# Altium footprint library EISI.PcbLib: 695 footprints (part 34 of 44)
Each footprint in its own frame and in the unit in brackets; x right, y up, seen from the top. Pads: shape width x height; smd on the part's side, far side on the other; paste and mask are expansions set on the pad; w line width, h text height; cw(c..) or ccw(c..) is an arc to the next point about the centre after c.
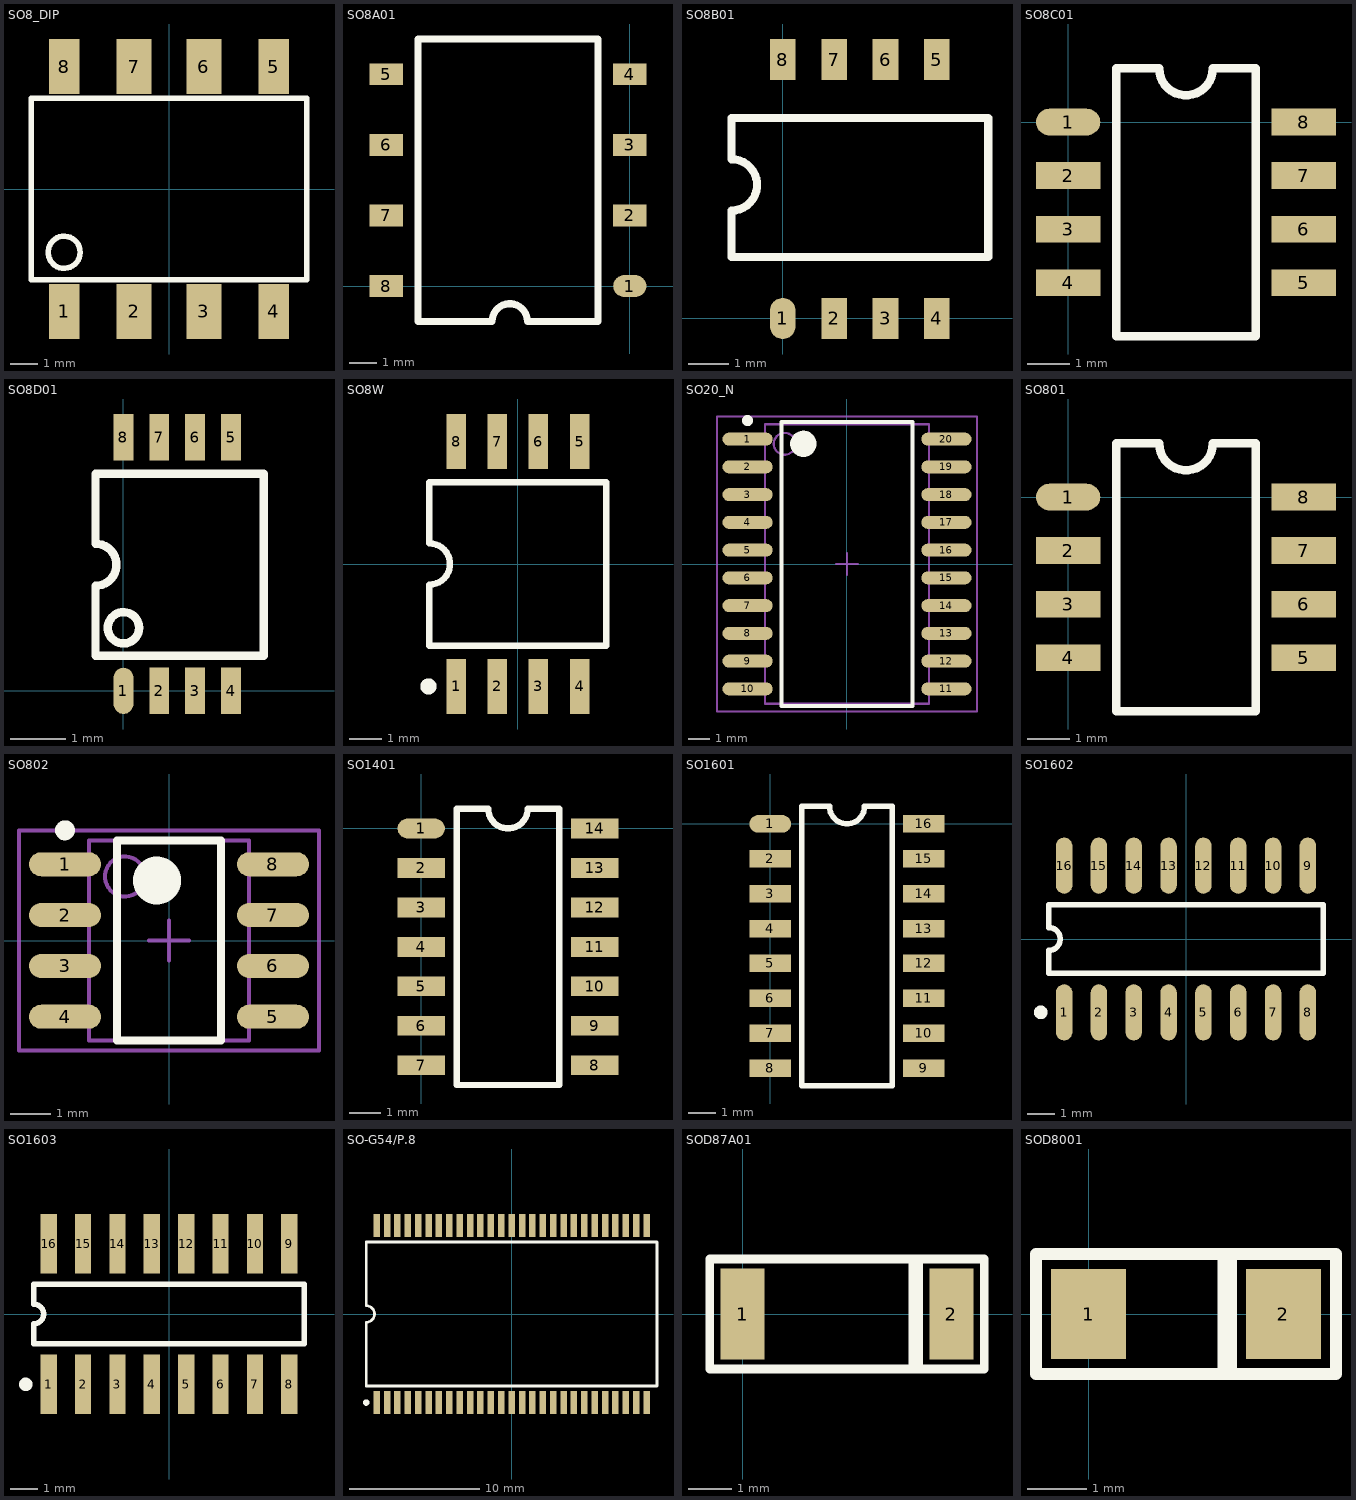
[diagram p33: the footprints below, top view; thin cyan lines are the x and y axes]

## SO8_DIP [mm] "8 pin DIP with gull Wing Surface Mount Option 300"
height 3.7
pads (8):
  rect 1.1x2 smd: 1(-3.81,-4.45) 4(3.81,-4.45) 5(3.81,4.45) 8(-3.81,4.45)
  rect 1.27x2 smd: 2(-1.27,-4.45) 3(1.27,-4.45) 6(1.27,4.45) 7(-1.27,4.45)
TopOverlay:
  circle w0.2: c-3.81,-2.3 r0.583
  lines w0.2: -5,-3.3 -5,3.3 5,3.3 5,-3.3 -5,-3.3

## SO8A01 [mil]
pads (8):
  oval 47x31 smd: 1(0,0)
  rect 47x31 smd: 2(0,100) 3(0,200) 4(0,300) 5(-345,300) 6(-345,200) 7(-345,100) 8(-345,0)
TopOverlay:
  lines w10: -300,-50 -195,-50 cw(c-170,-50) -145,-50 -45,-50 -45,350 -300,350 -300,-50

## SO8B01 [mil]
pads (8):
  oval 25x40 smd: 1(0,0)
  rect 25x40 smd: 2(50,0) 3(100,0) 4(150,0) 5(150,252) 6(100,252) 7(50,252) 8(0,252)
TopOverlay:
  lines w7.87: -50,105 -50,60 -20,60 200,60 200,195 -50,195 -50,155
  lines w8: -50,105 ccw(c-50,130) -50,155

## SO8C01 [mil]
pads (8):
  oval 60x25 smd: 1(0,0)
  rect 60x25 smd: 2(0,-50) 3(0,-100) 4(0,-150) 5(220,-150) 6(220,-100) 7(220,-50) 8(220,0)
TopOverlay:
  lines w7.87: 85,50 45,50 45,20 45,-200 175,-200 175,50 135,50
  lines w8: 85,50 ccw(c110,50) 135,50

## SO8D01 [mm]
pads (8):
  oval 0.36x0.84 smd: 1(0,0)
  rect 0.36x0.84 smd: 2(0.65,0) 3(1.3,0) 4(1.95,0) 5(1.95,4.6) 6(1.3,4.6) 7(0.65,4.6) 8(0,4.6)
TopOverlay:
  circle w0.152: c0,1.143 r0.284
  lines w0.152: -0.508,0.635 -0.508,1.905 ccw(c-0.508,2.286) -0.508,2.667 -0.508,3.937 2.54,3.937 2.54,0.635 -0.508,0.635

## SO8W [mm] "Small Outline; 8 Leads; Body Width 5.3 mm; Pitch 1.27 mm"
height 2.13
pads (8):
  rect 0.6x1.7 smd: 1(-1.905,-3.775) 2(-0.635,-3.775) 3(0.635,-3.775) 4(1.905,-3.775) 5(1.905,3.775) 6(0.635,3.775) 7(-0.635,3.775) 8(-1.905,3.775)
TopOverlay:
  circle w0.25: c-2.755,-3.775 r0.125
  lines w0.2: -2.725,-2.525 2.725,-2.525 2.725,2.525 -2.725,2.525 -2.725,0.635 cw(c-2.725,0) -2.725,-0.635 -2.725,-2.525

## SO20_N [mm] "20-Pin Plastic Small Outline Integrated Circuit 1.27 mm Pitch, IPC Medium Density"
height 2.65
pads (20):
  oval 2.3x0.6 smd: 1(-4.55,5.715) 2(-4.55,4.445) 3(-4.55,3.175) 4(-4.55,1.905) 5(-4.55,0.635) 6(-4.55,-0.635) 7(-4.55,-1.905) 8(-4.55,-3.175) 9(-4.55,-4.445) 10(-4.55,-5.715) 11(4.55,-5.715) 12(4.55,-4.445) 13(4.55,-3.175) 14(4.55,-1.905) 15(4.55,-0.635) 16(4.55,0.635) 17(4.55,1.905) 18(4.55,3.175) 19(4.55,4.445) 20(4.55,5.715)
TopOverlay:
  circle w0.25: c-4.55,6.565 r0.125
  circle w0.6: c-2,5.5 r0.3
  lines w0.2: -3,-6.5 -3,6.5 3,6.5 3,-6.5 -3,-6.5
Mechanical13:
  circle w0.1: c-2.85,5.5 r0.5
  lines w0.1: -3.75,-6.4 -3.75,6.4 3.75,6.4 3.75,-6.4 -3.75,-6.4
Mechanical15:
  lines w0.1: -0.5,0 0.5,0 ; 0,-0.5 0,0.5 ; -5.95,-6.75 -5.95,6.75 5.95,6.75 5.95,-6.75 -5.95,-6.75
3D body: height 2.65, standoff 0, extent -3.75,-6.4 3.75,6.4

## SO801 [mil]
pads (8):
  oval 60x25 smd: 1(0,0)
  rect 60x25 smd: 2(0,-50) 3(0,-100) 4(0,-150) 5(220,-150) 6(220,-100) 7(220,-50) 8(220,0)
TopOverlay:
  lines w7.87: 85,50 45,50 45,20 45,-200 175,-200 175,50 135,50
  lines w8: 85,50 ccw(c110,50) 135,50

## SO802 [mm] "8-Pin Narrow Body Small Outline Integrated Circuit 1.27 mm Pitch, IPC Medium Density"
height 1.75
pads (8):
  oval 1.8x0.6 smd: 1(-2.6,1.905) 2(-2.6,0.635) 3(-2.6,-0.635) 4(-2.6,-1.905) 5(2.6,-1.905) 6(2.6,-0.635) 7(2.6,0.635) 8(2.6,1.905)
TopOverlay:
  circle w0.25: c-2.6,2.755 r0.125
  circle w0.6: c-0.3,1.5 r0.3
  lines w0.2: -1.3,-2.5 -1.3,2.5 1.3,2.5 1.3,-2.5 -1.3,-2.5
Mechanical13:
  circle w0.1: c-1.1,1.6 r0.5
  lines w0.1: -2,-2.5 -2,2.5 2,2.5 2,-2.5 -2,-2.5
Mechanical15:
  lines w0.1: -0.5,0 0.5,0 ; 0,-0.5 0,0.5 ; -3.75,-2.75 -3.75,2.75 3.75,2.75 3.75,-2.75 -3.75,-2.75
3D body: height 2.59, standoff 0, extent -2,-2.5 2,2.5

## SO1401 [mil]
pads (14):
  oval 60x25 smd: 1(0,0)
  rect 60x25 smd: 2(0,-50) 3(0,-100) 4(0,-150) 5(0,-200) 6(0,-250) 7(0,-300) 8(220,-300) 9(220,-250) 10(220,-200) 11(220,-150) 12(220,-100) 13(220,-50) 14(220,0)
TopOverlay:
  lines w7.87: 85,25 45,25 45,20 45,-325 175,-325 175,25 155,25 135,25
  lines w8: 85,25 ccw(c110,25) 135,25

## SO1601 [mil]
pads (16):
  oval 60x25 smd: 1(0,0)
  rect 60x25 smd: 2(0,-50) 3(0,-100) 4(0,-150) 5(0,-200) 6(0,-250) 7(0,-300) 8(0,-350) 9(220,-350) 10(220,-300) 11(220,-250) 12(220,-200) 13(220,-150) 14(220,-100) 15(220,-50) 16(220,0)
TopOverlay:
  lines w7.87: 85,25 45,25 45,20 45,-375 175,-375 175,25 155,25 135,25
  lines w8: 85,25 ccw(c110,25) 135,25

## SO1602 [mm] "Small Outline; 16 Leads; Body Width 3.9 mm; Pitch 1.27 mm"
height 1.75
pads (16):
  oval 0.6x2.05 smd: 1(-4.445,-2.675) 2(-3.175,-2.675) 3(-1.905,-2.675) 4(-0.635,-2.675) 5(0.635,-2.675) 6(1.905,-2.675) 7(3.175,-2.675) 8(4.445,-2.675) 9(4.445,2.675) 10(3.175,2.675) 11(1.905,2.675) 12(0.635,2.675) 13(-0.635,2.675) 14(-1.905,2.675) 15(-3.175,2.675) 16(-4.445,2.675)
TopOverlay:
  circle w0.25: c-5.295,-2.675 r0.125
  lines w0.2: -5,-1.25 -5,-0.417 ccw(c-5,0) -5,0.417 -5,1.25 5,1.25 5,-1.25 -5,-1.25

## SO1603 [mm] "Small Outline; 16 Leads; Body Width 3.9 mm; Pitch 1.27 mm"
height 1.75
pads (16):
  rect 0.6x2.2 smd: 1(-4.445,-2.6) 2(-3.175,-2.6) 3(-1.905,-2.6) 4(-0.635,-2.6) 5(0.635,-2.6) 6(1.905,-2.6) 7(3.175,-2.6) 8(4.445,-2.6) 9(4.445,2.6) 10(3.175,2.6) 11(1.905,2.6) 12(0.635,2.6) 13(-0.635,2.6) 14(-1.905,2.6) 15(-3.175,2.6) 16(-4.445,2.6)
TopOverlay:
  circle w0.25: c-5.295,-2.6 r0.125
  lines w0.2: -5,-1.1 5,-1.1 5,1.1 -5,1.1 -5,0.367 cw(c-5,0) -5,-0.367 -5,-1.1

## SO-G54/P.8 [mm]
pads (54):
  rect 0.5x1.75 smd: 1(-10.4,-6.825) 2(-9.6,-6.825) 3(-8.8,-6.825) 4(-8,-6.825) 5(-7.2,-6.825) 6(-6.4,-6.825) 7(-5.6,-6.825) 8(-4.8,-6.825) 9(-4,-6.825) 10(-3.2,-6.825) 11(-2.4,-6.825) 12(-1.6,-6.825) 13(-0.8,-6.825) 14(0,-6.825) 15(0.8,-6.825) 16(1.6,-6.825) 17(2.4,-6.825) 18(3.2,-6.825) 19(4,-6.825) 20(4.8,-6.825) 21(5.6,-6.825) 22(6.4,-6.825) 23(7.2,-6.825) 24(8,-6.825) 25(8.8,-6.825) 26(9.6,-6.825) 27(10.4,-6.825) 28(10.4,6.825) 29(9.6,6.825) 30(8.8,6.825) 31(8,6.825) 32(7.2,6.825) 33(6.4,6.825) 34(5.6,6.825) 35(4.8,6.825) 36(4,6.825) 37(3.2,6.825) 38(2.4,6.825) 39(1.6,6.825) 40(0.8,6.825) 41(0,6.825) 42(-0.8,6.825) 43(-1.6,6.825) 44(-2.4,6.825) 45(-3.2,6.825) 46(-4,6.825) 47(-4.8,6.825) 48(-5.6,6.825) 49(-6.4,6.825) 50(-7.2,6.825) 51(-8,6.825) 52(-8.8,6.825) 53(-9.6,6.825) 54(-10.4,6.825)
TopOverlay:
  circle w0.25: c-11.2,-6.825 r0.125
  lines w0.2: -11.2,-5.55 -11.2,-0.635 ccw(c-11.2,0) -11.2,0.635 -11.2,5.55 11.2,5.55 11.2,-5.55 -11.2,-5.55

## SOD87A01 [mil]
pads (2):
  rect 40x83 smd: 1(0,0) 2(190,0)
TopOverlay:
  lines w7.87: 155,-50 155,50 ; 160,-50 160,50 ; -30,-50 -30,50 100,50 220,50 220,-50 40,-50 -30,-50

## SOD8001 [mil]
pads (2):
  rect 50x60 smd: 1(0,0) 2(130,0)
TopOverlay:
  lines w7.87: 90,-40 90,40 ; 95,-40 95,40 ; -35,-40 -35,40 100,40 165,40 165,-40 40,-40 -35,-40